# Altium footprint library LED_SMD.PcbLib: 12 footprints
Each footprint in its own frame and in the unit in brackets; x right, y up, seen from the top. Pads: shape width x height; smd on the part's side, far side on the other; paste and mask are expansions set on the pad; w line width, h text height; cw(c..) or ccw(c..) is an arc to the next point about the centre after c.
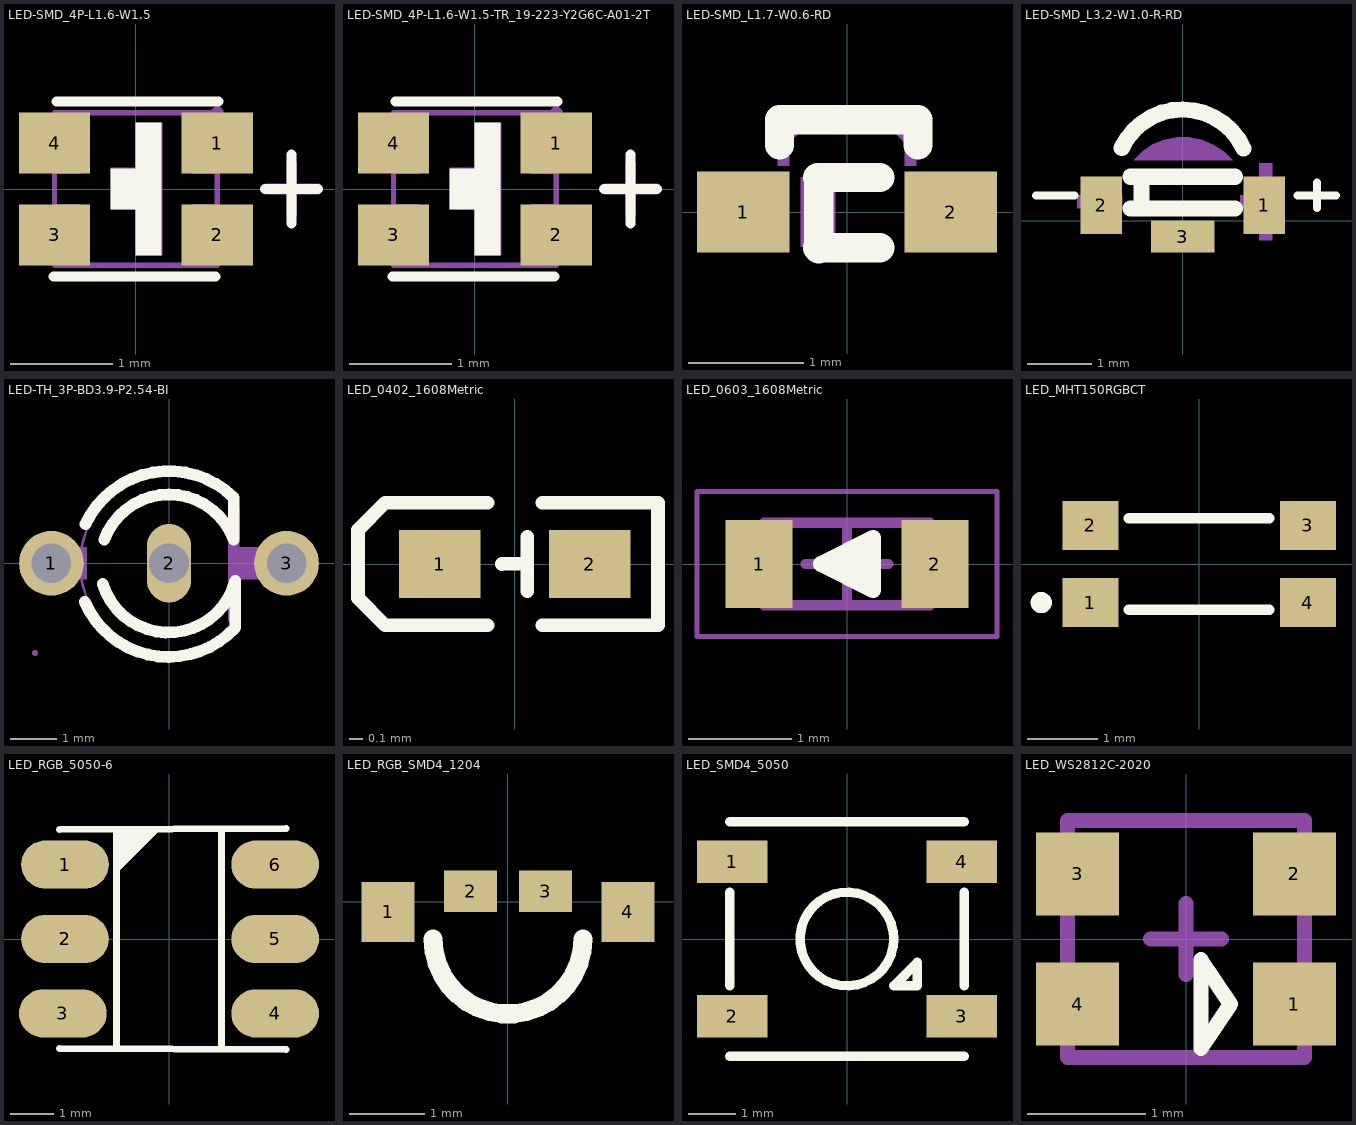
[diagram p0: the footprints below, top view; thin cyan lines are the x and y axes]

## LED-SMD_4P-L1.6-W1.5 [mm]
pads (4):
  rect 0.7x0.6 smd paste+0 mask+0.051: 1(0.8,0.45) 2(0.8,-0.45) 3(-0.8,-0.45) 4(-0.8,0.45)
Top Overlay:
  region: 0,0.65 0.25,0.65 0.25,-0.65 0,-0.65 0,0.65
  region: -0.25,0.2 -0.25,-0.2 0.1,-0.2 0.1,0.2 -0.25,0.2
  lines w0.1: -0.81,-0.86 0.78,-0.86 ; -0.78,0.86 0.81,0.86 ; 1.27,0 1.79,0 ; 1.53,-0.34 1.53,0.34
Mechanical 6:
  region: 1.582,0.264 1.582,-0.266 1.482,-0.266 1.482,0.264
  region: 1.27,0.05 1.8,0.05 1.8,-0.05 1.27,-0.05
  region: 0,0.21 0,0.65 0.26,0.65 0.26,-0.65 0,-0.65 0,-0.2 -0.25,-0.2 -0.25,0.21
Mechanical 15:
  region: -0.8,-0.15 -0.55,-0.15 -0.55,-0.75 -0.8,-0.75
  region: -0.8,0.75 -0.55,0.75 -0.55,0.15 -0.8,0.15
  region: 0.55,0.75 0.8,0.75 0.8,0.15 0.55,0.15
  region: 0.55,-0.15 0.8,-0.15 0.8,-0.75 0.55,-0.75
  region: 0.86,0.75 0.86,0.775 0.825,0.81 0.775,0.81 0.74,0.775 0.74,0.75 0.74,0.725 0.775,0.69 0.825,0.69 0.86,0.725 0.86,0.75
  lines w0.051: -0.8,-0.75 0.8,-0.75 0.8,0.75 -0.8,0.75 -0.8,-0.75
3D body "LED1.stp": height 0.6, standoff 0, extent -0.801,-0.75 0.801,0.75

## LED-SMD_4P-L1.6-W1.5-TR_19-223-Y2G6C-A01-2T [mm]
pads (4):
  rect 0.7x0.6 smd paste+0 mask+0.051: 1(0.8,0.45) 2(0.8,-0.45) 3(-0.8,-0.45) 4(-0.8,0.45)
Top Overlay:
  region: 0,0.65 0.25,0.65 0.25,-0.65 0,-0.65 0,0.65
  region: -0.25,0.2 -0.25,-0.2 0.1,-0.2 0.1,0.2 -0.25,0.2
  lines w0.1: -0.81,-0.86 0.78,-0.86 ; -0.78,0.86 0.81,0.86 ; 1.27,0 1.79,0 ; 1.53,-0.34 1.53,0.34
Mechanical 6:
  region: 1.582,0.264 1.582,-0.266 1.482,-0.266 1.482,0.264
  region: 1.27,0.05 1.8,0.05 1.8,-0.05 1.27,-0.05
  region: 0,0.21 0,0.65 0.26,0.65 0.26,-0.65 0,-0.65 0,-0.2 -0.25,-0.2 -0.25,0.21
Mechanical 15:
  region: -0.8,-0.15 -0.55,-0.15 -0.55,-0.75 -0.8,-0.75
  region: -0.8,0.75 -0.55,0.75 -0.55,0.15 -0.8,0.15
  region: 0.55,0.75 0.8,0.75 0.8,0.15 0.55,0.15
  region: 0.55,-0.15 0.8,-0.15 0.8,-0.75 0.55,-0.75
  region: 0.86,0.75 0.86,0.775 0.825,0.81 0.775,0.81 0.74,0.775 0.74,0.75 0.74,0.725 0.775,0.69 0.825,0.69 0.86,0.725 0.86,0.75
  lines w0.051: -0.8,-0.75 0.8,-0.75 0.8,0.75 -0.8,0.75 -0.8,-0.75
3D body "LED1.stp": height 0.6, standoff 0, extent -0.801,-0.75 0.801,0.75

## LED-SMD_L1.7-W0.6-RD [mm]
pads (2):
  rect 0.8x0.7 smd: 1(-0.9,0) 2(0.9,0)
Top Overlay:
  lines w0.254: -0.585,0.581 -0.585,0.8 0.615,0.8 0.615,0.581 ; -0.254,-0.31 0.284,-0.31 ; -0.254,0.3 0.284,0.3 ; -0.245,-0.32 -0.245,0.279
Mechanical 15:
  region: -0.4,0.3 -0.1,0.3 -0.1,-0.3 -0.4,-0.3
  region: -0.6,0.4 -0.6,0.575 -0.6,0.675 -0.5,0.775 -0.4,0.775 0.5,0.775 0.6,0.675 0.6,0.4 0.5,0.4 0.5,0.6 0.4,0.7 -0.4,0.7 -0.5,0.6 -0.5,0.4
  region: -1.158,-0.035 -1.158,0.035 -0.638,0.035 -0.638,-0.035
  region: 0.935,-0.258 0.865,-0.258 0.865,0.262 0.935,0.262
  region: 0.642,-0.035 0.642,0.035 1.162,0.035 1.162,-0.035
3D body "led_side.stp": height 0.6, standoff 0, extent -0.825,-0.35 0.825,0.81

## LED-SMD_L3.2-W1.0-R-RD [mm]
pads (3):
  rect 0.65x0.9 smd: 1(1.275,0.247) 2(-1.275,0.247)
  rect 1x0.5 smd: 3(0,-0.247)
Top Overlay:
  lines w0.125: -2.3,0.4 -1.7,0.4 ; 1.8,0.4 2.4,0.4 ; 2.1,0.2 2.1,0.6
  lines w0.254: -0.957,1.143 cw(c-0.005,0.692) 0.952,1.133 ; -0.819,0.192 0.819,0.192 ; -0.819,0.692 0.819,0.692 ; -0.647,0.192 -0.647,0.692
Mechanical 15:
  region: -0.77,0.95 0.78,0.95 0.717,1.013 0.646,1.084 0.48,1.195 0.296,1.271 0.1,1.31 0,1.31 -0.097,1.31 -0.289,1.272 -0.469,1.197 -0.631,1.089 -0.7,1.02
  region: 1.2,0.9 1.4,0.9 1.4,-0.3 1.2,-0.3
  region: -1.55,0.4 -0.95,0.4 -0.95,0.2 -1.65,0.2 -1.65,0.4
  region: 1,0.4 1.6,0.4 1.6,0.2 0.9,0.2 0.9,0.4
3D body "LED1.stp": height 1.02, standoff 0, extent -1.51,-0.205 1.51,1.305

## LED-TH_3P-BD3.9-P2.54-BI [mil]
pads (3):
  round 55.1 hole 33.5 mask+2: 1(-100,0) 3(100,0)
  oval 37.4x66.9 hole 33.5 mask+2: 2(0,0)
Top Overlay:
  lines w10: -71.65,-32.68 ccw(c-0.56,-2.39) 56.3,-54.72 ; -71.05,33.21 cw(c0,0) 55,55.91 55,20 ccw(c0,0) -55,20 ; -56.3,-17.72 ccw(c-0.39,-0.42) 56.3,-14.96 ; 56.3,-53.5 56.3,-15
Mechanical 6:
  region: 59.1,57.3 58.9,57.1 58.9,-48.7 58.9,-49.02 58.66,-49.61 58.21,-50.06 57.62,-50.3 57.3,-50.3 52.8,-50.3 52.3,-50.3 51.38,-49.92 50.68,-49.22 50.3,-48.3 50.3,-47.8 50.3,57.5
Mechanical 15:
  region: 55.1,13.8 100,13.8 100,-13.8 55.1,-13.8
  region: -69.8,-13.8 -100,-13.8 -100,13.8 -69.8,13.8
  region: 113.8,0 113.8,2.74 111.7,7.82 107.82,11.7 102.74,13.8 97.25,13.8 92.18,11.7 88.3,7.82 86.2,2.74 86.2,0 86.2,-2.75 88.3,-7.82 92.18,-11.7 97.25,-13.8 102.74,-13.8 107.82,-11.7 111.7,-7.82 113.8,-2.75 113.8,0
  region: 13.8,0 13.8,2.74 11.7,7.82 7.82,11.7 2.74,13.8 -2.75,13.8 -7.82,11.7 -11.7,7.82 -13.8,2.74 -13.8,0 -13.8,-2.75 -11.7,-7.82 -7.82,-11.7 -2.75,-13.8 2.74,-13.8 7.82,-11.7 11.7,-7.82 13.8,-2.75 13.8,0
  region: -86.2,0 -86.2,2.74 -88.3,7.82 -92.18,11.7 -97.26,13.8 -102.75,13.8 -107.82,11.7 -111.7,7.82 -113.8,2.74 -113.8,0 -113.8,-2.75 -111.7,-7.82 -107.82,-11.7 -102.75,-13.8 -97.26,-13.8 -92.18,-11.7 -88.3,-7.82 -86.2,-2.75 -86.2,0
  region: -111.4,-76.4 -111.4,-75.41 -112.81,-74 -114.79,-74 -116.2,-75.41 -116.2,-76.4 -116.2,-77.39 -114.79,-78.8 -112.81,-78.8 -111.4,-77.39 -111.4,-76.4
  lines w2: -75.5,-0.8 ccw(c0,-0.8) 0,-76.3 0.9,-76.4 cw(c1.12,-76.59) 1.1,-76.3 1.3,-76.3 ccw(c1.38,-4.07) 52.4,-55.2 59.1,-48.5 59.1,46.9 53.1,52.9 ccw(c0.39,0.06) 0.3,74.7 -0.7,74.7 ccw(c-0.75,-0.05) -75.5,0 -75.5,-0.8
3D body "LED1.stp": height 267.72, standoff -767.72, extent -109.85,-76.54 109.84,74.88

## LED_0402_1608Metric [mm]
pads (2):
  rect 0.6x0.5 smd: 1(-0.55,0) 2(0.55,0)
Top Overlay:
  lines w0.1: -0.2,-0.45 -0.95,-0.45 -1.15,-0.25 -1.15,0.25 -0.95,0.45 ; -0.2,0.45 -0.95,0.45 ; -0.096,0 0.09,0.001 ; 0.09,-0.2 0.09,0.2 ; 0.2,-0.45 1.05,-0.45 1.05,0.45 0.2,0.45 ; -0.95,0.45 -0.95,0.45
3D body "User Library-led_0402.STEP": height 0.45, standoff 0, extent -0.505,-0.25 0.505,0.25

## LED_0603_1608Metric [mm] "Chip Resistor, 2-Leads, Body 1.60x0.80mm, IPC Medium Density"
height 0.45
pads (2):
  rect 0.65x0.85 smd: 1(-0.85,0) 2(0.85,0)
Top Overlay:
  region: 0.254,0.254 0.254,-0.254 -0.254,0
  lines w0.152: -0.254,0 0.254,0.254 0.254,-0.254 -0.254,0
Mechanical 13:
  lines w0.1: -0.8,-0.4 -0.8,0.4 0.8,0.4 0.8,-0.4 -0.8,-0.4
Mechanical 15:
  lines w0.05: -1.45,-0.7 -1.45,0.7 1.45,0.7 1.45,-0.7 -1.45,-0.7
  lines w0.1: -0.4,0 0.4,0 ; 0,-0.4 0,0.4
3D body "User Library-LED SMD0603.STEP": height 0.68, standoff 0, extent -0.837,-0.363 0.813,0.363

## LED_MHT150RGBCT [mm]
pads (4):
  rect 0.8x0.7 smd: 1(-1.55,-0.55) 2(-1.55,0.55) 3(1.55,0.55) 4(1.55,-0.55)
Top Overlay:
  circle w0.152: c-2.25,-0.55 r0.075
  lines w0.152: -1,-0.65 1,-0.65 ; -1,0.65 1,0.65

## LED_RGB_5050-6 [mm]
pads (6):
  oval 2x1.1 smd: 1(-2.375,1.7) 2(-2.375,0) 3(-2.425,-1.7) 4(2.425,-1.7) 5(2.425,0) 6(2.425,1.7)
Top Overlay:
  region: -1.2,2.506 -1.194,2.5 -0.3,2.5 -1.2,1.6
  lines w0.152: -2.5,-2.5 2.675,-2.525 ; -2.5,2.5 2.675,2.525 ; -1.2,-2.506 -1.2,2.506 ; -1.2,1.6 -0.3,2.5 ; 1.2,-2.506 1.2,2.506
3D body "LED_RGB_5050-6.step": height 1.6, standoff 0, extent -2.625,-2.5 2.775,2.5

## LED_RGB_SMD4_1204 [mm]
height 1
pads (4):
  rect 0.7x0.8 smd: 1(-1.6,-0.138) 4(1.6,-0.138)
  rect 0.7x0.55 smd: 2(-0.5,0.138) 3(0.5,0.138)
Top Overlay:
  lines w0.254: -1,-0.5 ccw(c0,-0.5) 1,-0.5

## LED_SMD4_5050 [mm]
pads (4):
  rect 1.5x0.9 smd: 1(-2.45,1.65) 2(-2.45,-1.65) 3(2.45,-1.65) 4(2.45,1.65)
Top Overlay:
  circle w0.2: c0,0 r1
  lines w0.2: -2.5,-2.5 2.5,-2.5 ; -2.5,-1 -2.5,1 ; -2.5,2.5 2.5,2.5 ; 2.5,-1 2.5,1 ; 1.5,-0.5 1.5,-0.5 ; 1.5,-0.5 1,-1 1.5,-1 1.5,-0.5
3D body "LED_RGB_5050-6.step": height 1.6, standoff 0, extent -2.625,-2.5 2.775,2.5

## LED_WS2812C-2020 [mm]
pads (4):
  rect 0.7x0.7 smd: 1(0.915,-0.55) 2(0.915,0.55) 3(-0.915,0.55) 4(-0.915,-0.55)
Top Overlay:
  lines w0.127: 0.125,-0.925 0.125,-0.175 0.375,-0.55 0.125,-0.925
Mechanical 15:
  lines w0.127: -0.3,0 0.3,0 ; 0,-0.3 0,0.3 ; -1,-1 1,-1 1,1 -1,1 -1,-1
3D body: height 0.94, standoff 0.1, extent -0.794,-0.798 0.8,0.798
3D body: height 0.28, standoff 0, extent -1,-1 1,1